# EAGLE library part FDS8928A (library zz-m-pad-2.1)
Fairchild's FDS8928A Dual N & P-Channel Enhancement Mode Field Effect Transistor General Description: These dual N- and P -Channel enhancement mode power field effect transistors are produced using Fairchild's proprietary, high cell density, DMOS technology. This very high density process is especially tailored to minimize on-state resistance and provide superior switching performance. These devices are particularly suited for low voltage applications such as notebook computer power management and other battery powered circuits where fast switching, low in-line power loss, and resistance to transients are needed. Features: N-Channel 5.5 A,30 V, RDS(ON)=0.030 W @ VGS=4.5 V RDS(ON)=0.038 W @ VGS=2.5 V. P-Channel -4 A,-20 V, RDS(ON)=0.055 W @ VGS=-4.5 V RDS(ON)=0.072 W @ VGS=-2.5 V. High density cell design for extremely low RDS(ON). High power and current handling capability in a widely used surface mount package. Dual (N & P-Channel) MOSFET in surface mount package. Please send any comments to: messi@users.sourceforge.net
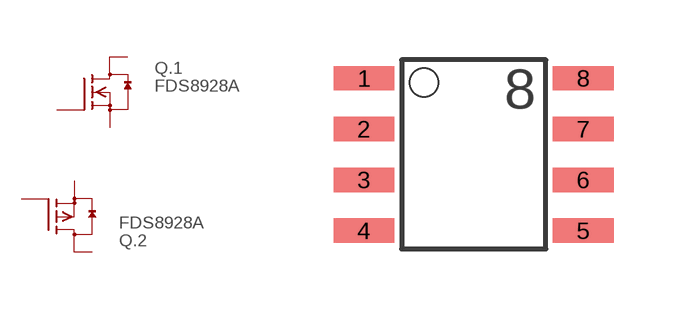
[diagram p71: symbol with the pads of SO-8; footprint SO-8]

Designator prefix Q; gates .1=IGFET-4-N-CH .2=IGFET-4-P-CH

## FDS8928A  [SO-8]
1  .1:S  pas
2  .1:G  pas
3  .2:S  pas
4  .2:G  pas
5  .2:D  pas
6  .2:D  pas
7  .1:D  pas
8  .1:D  pas

## Footprint SO-8 (pad centres in mm)
small outline
smd 1.524 x 0.61: 1 -2.743,1.27; 2 -2.743,0; 3 -2.743,-1.27; 4 -2.743,-2.54; 5 2.743,-2.54; 6 2.743,-1.27; 7 2.743,0; 8 2.743,1.27